# Altium footprint library PcbLib1.PcbLib: 46 footprints (part 2 of 3)
Each footprint in its own frame and in the unit in brackets; x right, y up, seen from the top. Pads: shape width x height; smd on the part's side, far side on the other; paste and mask are expansions set on the pad; w line width, h text height; cw(c..) or ccw(c..) is an arc to the next point about the centre after c.
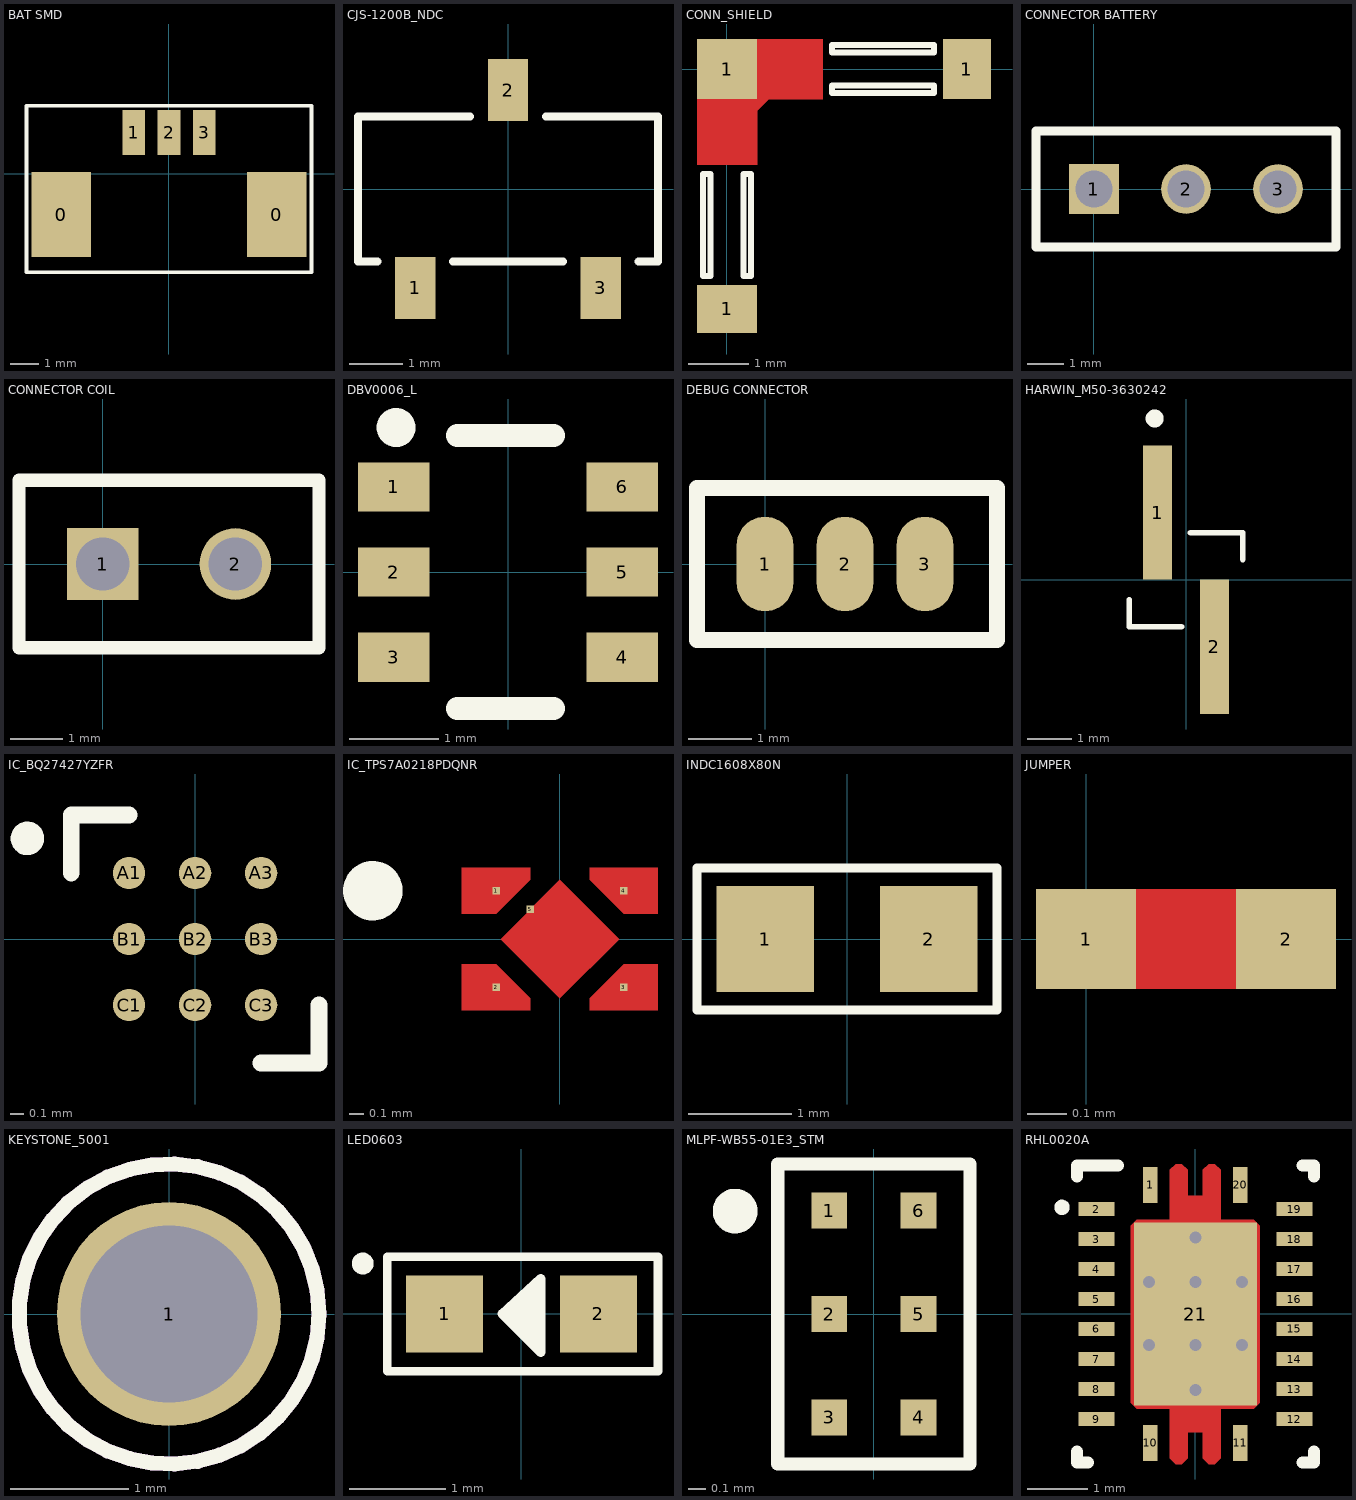
[diagram p1: the footprints below, top view; thin cyan lines are the x and y axes]

## BAT SMD [mm]
pads (5):
  rect 2.1x3 smd: 0(-3.8,-1.45) 0(3.8,-1.45)
  rect 0.8x1.6 smd: 1(-1.25,1.45) 2(0,1.45) 3(1.25,1.45)
Top Overlay:
  lines w0.127: -5.035,-3.492 -5.035,2.402 -1.936,2.402 1.936,2.402 5.035,2.402 5.035,-3.492 -5.035,-3.492
3D body "10114830-11103LF.step": height 3.4, standoff 0, extent -4.387,-3.37 4.514,1.93

## CJS-1200B_NDC [mil]
pads (3):
  rect 30x46 smd paste+0 mask+0: 1(-68.9,-73.5) 2(0,73.5) 3(68.9,-73.5)
Top Overlay:
  lines w6: -97,-54 -111.5,-54 -111.5,54 -28.1,54 ; -40.8,-54 40.8,-54 ; 28.1,54 111.5,54 111.5,-54 97,-54
3D body "CJS-1200TB.stp": height 99.21, standoff 0, extent -106.3,-82.68 106.3,82.68

## CONN_SHIELD [mm]
pads (3):
  rect 1x0.8 smd mask+0.05: 1(0,-4)
  rect 1x1 smd mask+0.05: 1(0,0)
  rect 0.8x1 smd mask+0.05: 1(4,0)
Top Layer:
  region: 1.6,0.5 -0.5,0.5 -0.5,-1.6 0.5,-1.6 0.5,-0.7 0.7,-0.5 1.6,-0.5
Top Overlay:
  lines w0.1: -0.4,-3.45 -0.4,-1.75 -0.275,-1.75 -0.275,-3.45 -0.4,-3.45 ; 0.275,-3.45 0.4,-3.45 0.4,-1.75 0.275,-1.75 0.275,-3.45 ; 1.75,-0.4 3.45,-0.4 3.45,-0.275 1.75,-0.275 1.75,-0.4 ; 1.75,0.275 3.45,0.275 3.45,0.4 1.75,0.4 1.75,0.275
3D body "s0981-46.stp": height 1.35, standoff 0, extent -0.455,-4.3 4.3,0.455

## CONNECTOR BATTERY [mm]
pads (3):
  rect 1.37x1.37 hole 1.02: 1(0,0)
  round 1.37 hole 1.02: 2(2.54,0) 3(5.08,0)
Top Overlay:
  lines w0.254: 6.667,-1.6 -1.6,-1.6 -1.6,1.6 6.667,1.6 ; 6.68,-1.6 6.68,1.6

## CONNECTOR COIL [mm]
pads (2):
  rect 1.37x1.37 hole 1.02: 1(0,0)
  round 1.37 hole 1.02: 2(2.54,0)
Top Overlay:
  lines w0.254: -1.6,-1.6 -1.6,1.6 4.14,1.6 4.14,-1.6 -1.6,-1.6

## DBV0006_L [mm]
pads (6):
  rect 0.8x0.55 smd paste+0 mask+0: 1(-1.275,0.95) 2(-1.275,0) 3(-1.275,-0.95) 4(1.275,-0.95) 5(1.275,0) 6(1.275,0.95)
Top Overlay:
  circle w0.254: c-1.25,1.614 r0.09
  lines w0.254: -0.567,-1.524 0.508,-1.524 ; -0.567,1.524 0.508,1.524
3D body "DBV0006A.stp": height 1.2, standoff 0, extent -1.4,-1.45 1.4,1.45

## DEBUG CONNECTOR [mm]
pads (3):
  oval 0.9x1.5 smd: 1(0,0) 2(1.27,0) 3(2.54,0)
Top Overlay:
  lines w0.254: -1.079,-1.206 3.683,-1.206 3.683,1.206 -1.079,1.206 -1.079,-1.206

## HARWIN_M50-3630242 [mm]
height 4.2
pads (2):
  rect 0.65x3 smd: 1(-0.635,1.5) 2(0.635,-1.5)
Top Overlay:
  circle w0.2: c-0.7,3.6 r0.1
  lines w0.127: -1.27,-0.45 -1.27,-1.05 -0.1,-1.05 ; 0.1,1.05 1.27,1.05 1.27,0.45
3D body "m50-3630242.stp": height 4.5, standoff 0, extent -1.285,-2.5 1.255,2.5

## IC_BQ27427YZFR [mm]
height 0.625
pads (9):
  round 0.245 smd: A1(-0.5,0.5) A2(0,0.5) A3(0.5,0.5) B1(-0.5,0) B2(0,0) B3(0.5,0) C1(-0.5,-0.5) C2(0,-0.5) C3(0.5,-0.5)
Top Overlay:
  circle w0.127: c-1.27,0.762 r0.064
  lines w0.127: -0.938,0.5 -0.938,0.938 -0.5,0.938 ; 0.5,-0.938 0.938,-0.938 0.938,-0.5
Top Paste:
  drawing of 9 lines, arcs and shapes, not listed
3D body "BQ27427YZFR.step": height 0.63, standoff 0, extent -0.81,-0.79 0.81,0.79

## IC_TPS7A0218PDQNR [mm]
height 0.4
pads (5):
  rect 0.05x0.05 smd paste-1 mask+0: 1(-0.43,0.325) 2(-0.43,-0.325) 3(0.43,-0.325) 4(0.43,0.325) 5(-0.2,0.2)
Top Layer:
  region: 0.4,0 0,-0.4 -0.4,0 0,0.4
  region: -0.2,-0.4 -0.2,-0.48 -0.66,-0.48 -0.66,-0.17 -0.43,-0.17
  region: 0.66,0.17 0.43,0.17 0.2,0.4 0.2,0.48 0.66,0.48
  region: 0.66,-0.48 0.2,-0.48 0.2,-0.4 0.43,-0.17 0.66,-0.17
  region: -0.2,0.4 -0.43,0.17 -0.66,0.17 -0.66,0.48 -0.2,0.48
Top Overlay:
  circle w0.2: c-1.26,0.325 r0.1
Top Paste:
  region: 0.318,0 0,-0.318 -0.318,0 0,0.318
  region: -0.25,-0.4 -0.25,-0.43 -0.65,-0.43 -0.65,-0.22 -0.43,-0.22
  region: -0.25,0.4 -0.43,0.22 -0.65,0.22 -0.65,0.43 -0.25,0.43
  region: 0.65,-0.43 0.25,-0.43 0.25,-0.4 0.43,-0.22 0.65,-0.22
  region: 0.65,0.22 0.43,0.22 0.25,0.4 0.25,0.43 0.65,0.43
Top Solder:
  region: 0.339,0 0,-0.339 -0.339,0 0,0.339
  region: -0.25,-0.4 -0.25,-0.43 -0.61,-0.43 -0.61,-0.22 -0.43,-0.22
  region: 0.61,0.22 0.43,0.22 0.25,0.4 0.25,0.43 0.61,0.43
  region: 0.61,-0.43 0.25,-0.43 0.25,-0.4 0.43,-0.22 0.61,-0.22
  region: -0.25,0.4 -0.43,0.22 -0.61,0.22 -0.61,0.43 -0.25,0.43
3D body "TPS7A0218PDQNR.step": height 0.4, standoff 0, extent -0.5,-0.5 0.5,0.5

## INDC1608X80N [mm]
pads (2):
  rect 0.94x1.02 smd: 1(-0.79,0) 2(0.79,0)
Top Overlay:
  lines w0.089: -1.448,-0.686 1.448,-0.686 1.448,0.686 -1.448,0.686 -1.448,-0.686
3D body "DFE18SAN1R0ME0L.step": height 0.8, standoff 0, extent -0.847,-0.413 0.753,0.387

## JUMPER [mil]
pads (2):
  rect 10x10 smd paste-99999 mask+4: 1(0,0) 2(20,0)
Top Layer:
  lines w10: 0,0 15,0

## KEYSTONE_5001 [mm]
pads (1):
  round 1.9 hole 1.5: 1(0,0)
Top Overlay:
  circle w0.127: c0,0 r1.27
Mechanical 13:
  circle w0.127: c0,0 r1.27
3D body "step_temp.STEP": height 4.57, standoff -3.05, extent -1.27,-1.27 1.27,1.27

## LED0603 [mm]
height 0.7
pads (2):
  rect 0.8x0.8 smd: 1(-0.8,0) 2(0.8,0)
Top Overlay:
  circle w0.127: c-1.651,0.524 r0.05
  region: 0.2,0 -0.165,0 0.2,0.365
  region: 0.2,0 0.2,-0.365 -0.165,0
  lines w0.089: -1.397,-0.595 1.42,-0.595 1.42,0.593 -1.397,0.593 -1.397,-0.595
  lines w0.1: 0.2,0 -0.2,0 ; -0.2,0 0.2,0.365 0.2,-0.4 -0.2,0
3D body "User Library-LTST-C190GKT.STEP": height 0.9, standoff 0, extent -0.85,-0.45 0.85,0.45

## MLPF-WB55-01E3_STM [mil]
pads (6):
  rect 8x8 smd paste+0 mask+0: 1(-10,23.11) 2(-10,0) 3(-10,-23.11) 4(10,-23.11) 5(10,0) 6(10,23.11)
Top Overlay:
  circle w5: c-31,23 r2.5
  lines w3: -21.5,-33.52 21.48,-33.52 21.48,33.53 -21.5,33.53 -21.5,-33.52
3D body "MLPF-WB55-01E3_STM.step": height 18.11, standoff 0, extent -20,-32.01 20,32.01

## RHL0020A [mm]
pads (21):
  rect 0.24x0.6 smd paste+0: 1(-0.75,2.15) 10(-0.75,-2.15) 11(0.75,-2.15) 20(0.75,2.15)
  rect 0.6x0.24 smd paste+0: 2(-1.65,1.75) 3(-1.65,1.25) 4(-1.65,0.75) 5(-1.65,0.25) 6(-1.65,-0.25) 7(-1.65,-0.75) 8(-1.65,-1.25) 9(-1.65,-1.75) 12(1.65,-1.75) 13(1.65,-1.25) 14(1.65,-0.75) 15(1.65,-0.25) 16(1.65,0.25) 17(1.65,0.75) 18(1.65,1.25) 19(1.65,1.75)
  rect 2.05x3.05 smd paste-1.512 mask+0: 21(0,0)
via 0,1.275 diameter 0.4 hole 0.2
via 0.774,0.531 diameter 0.4 hole 0.2
via -0.001,0.531 diameter 0.4 hole 0.2
via -0.776,0.531 diameter 0.4 hole 0.2
via -0.776,-0.519 diameter 0.4 hole 0.2
via -0.001,-0.519 diameter 0.4 hole 0.2
via 0.774,-0.519 diameter 0.4 hole 0.2
via -0.001,-1.269 diameter 0.4 hole 0.2
Top Layer:
  region: -1.075,-1.475 -0.975,-1.575 -0.425,-1.575 -0.425,-2.4 -0.325,-2.5 -0.225,-2.5 -0.125,-2.4 -0.125,-1.975 0.125,-1.975 0.125,-2.4 0.225,-2.5 0.325,-2.5 0.425,-2.4 0.425,-1.575 0.975,-1.575 1.075,-1.475 1.075,1.475 0.975,1.575 0.425,1.575 0.425,2.4 0.325,2.5 0.225,2.5 0.125,2.4 0.125,1.975 -0.125,1.975 -0.125,2.4 -0.225,2.5 -0.325,2.5 -0.425,2.4 -0.425,1.575 -0.975,1.575 -1.075,1.475
Top Overlay:
  circle w0.127: c-2.222,1.778 r0.064
  lines w0.2: -1.975,-2.29 -1.975,-2.475 -1.79,-2.475 ; -1.975,2.29 -1.975,2.475 -1.29,2.475 ; 1.79,-2.475 1.975,-2.475 1.975,-2.29 ; 1.79,2.475 1.975,2.475 1.975,2.29
Top Paste:
  drawing of 8 lines, arcs and shapes, not listed
Top Solder:
  region: -0.425,-1.525 -0.954,-1.525 -1.025,-1.454 -1.025,1.454 -0.954,1.525 -0.425,1.525 -0.415,1.526 -0.406,1.529 -0.397,1.533 -0.39,1.54 -0.383,1.547 -0.379,1.556 -0.376,1.565 -0.375,1.575 -0.375,2.379 -0.304,2.45 -0.246,2.45 -0.175,2.379 -0.175,1.975 -0.174,1.965 -0.171,1.956 -0.166,1.947 -0.16,1.94 -0.153,1.933 -0.144,1.929 -0.135,1.926 -0.125,1.925 0.125,1.925 0.135,1.926 0.144,1.929 0.153,1.933 0.16,1.94 0.167,1.947 0.171,1.956 0.174,1.965 0.175,1.975 0.175,2.379 0.246,2.45 0.304,2.45 0.375,2.379 0.375,1.575 0.376,1.565 0.379,1.556 0.384,1.547 0.39,1.54 0.397,1.533 0.406,1.529 0.415,1.526 0.425,1.525 0.954,1.525 1.025,1.454 1.025,-1.454 0.954,-1.525 0.425,-1.525 0.415,-1.526 0.406,-1.529 0.397,-1.534 0.39,-1.54 0.384,-1.547 0.379,-1.556 0.376,-1.565 0.375,-1.575 0.375,-2.379 0.304,-2.45 0.246,-2.45 0.175,-2.379 0.175,-1.975 0.174,-1.965 0.171,-1.956 0.167,-1.947 0.16,-1.94 0.153,-1.934 0.144,-1.929 0.135,-1.926 0.125,-1.925 -0.125,-1.925 -0.135,-1.926 -0.144,-1.929 -0.153,-1.934 -0.16,-1.94 -0.166,-1.947 -0.171,-1.956 -0.174,-1.965 -0.175,-1.975 -0.175,-2.379 -0.246,-2.45 -0.304,-2.45 -0.375,-2.379 -0.375,-1.575 -0.376,-1.565 -0.379,-1.556 -0.383,-1.547 -0.39,-1.54 -0.397,-1.534 -0.406,-1.529 -0.415,-1.526
3D body "step_temp.STEP": height 1, standoff 0, extent -1.75,-2.25 1.75,2.25